# Altium schematic symbol library ESP32.schlib: 1 symbol
Pins are listed as number, name and electrical type; pins without a type are passive.

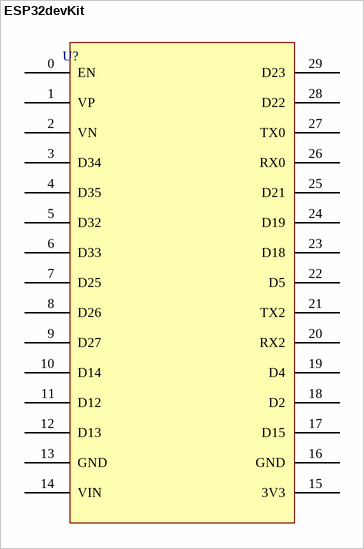
[diagram p0: symbol ESP32devKit]

## ESP32devKit
designator U?  (value not drawn)
footprint ESP32
pins: 0 EN, 1 VP, 2 VN, 3 D34, 4 D35, 5 D32, 6 D33, 7 D25, 8 D26, 9 D27, 10 D14, 11 D12, 12 D13, 13 GND, 14 VIN, 15 3V3, 16 GND, 17 D15, 18 D2, 19 D4, 20 RX2, 21 TX2, 22 D5, 23 D18, 24 D19, 25 D21, 26 RX0, 27 TX0, 28 D22, 29 D23